# Altium footprint library Header-2x8-M90_2mm_SMD.PcbLib: 1 footprints
Each footprint in its own frame and in the unit in brackets; x right, y up, seen from the top. Pads: shape width x height; smd on the part's side, far side on the other; paste and mask are expansions set on the pad; w line width, h text height; cw(c..) or ccw(c..) is an arc to the next point about the centre after c.
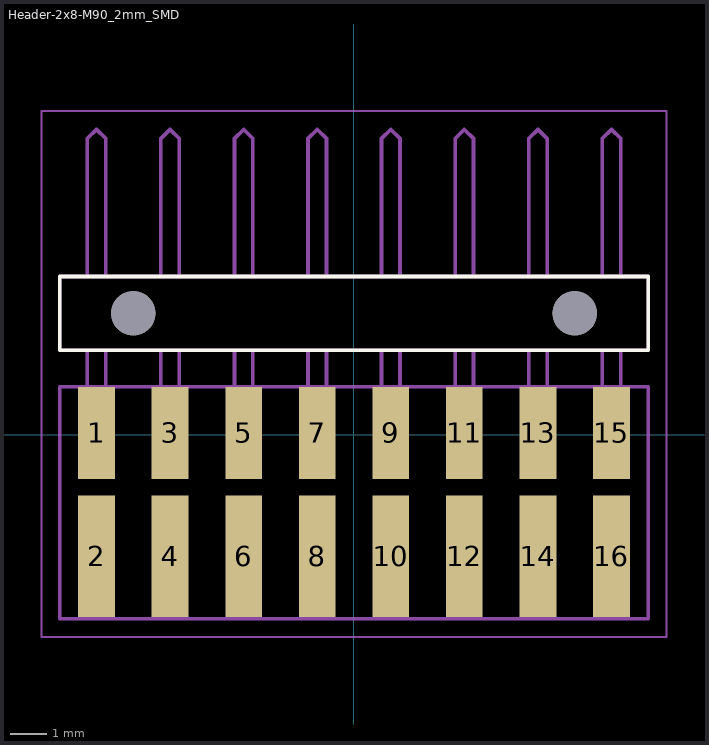
[diagram p0: the footprint, top view; thin cyan lines are the x and y axes]

## Header-2x8-M90_2mm_SMD [mm]
height 4
pads (18):
  rect 1x2.5 smd: 1(-7,0.05) 3(-5,0.05) 5(-3,0.05) 7(-1,0.05) 9(1,0.05) 11(3,0.05) 13(5,0.05) 15(7,0.05)
  rect 1x3.3 smd: 2(-7,-3.3) 4(-5,-3.3) 6(-3,-3.3) 8(-1,-3.3) 10(1,-3.3) 12(3,-3.3) 14(5,-3.3) 16(7,-3.3)
  round 1.2 hole 1.2 unplated: ""(-6,3.3) ""(6,3.3)
Top Overlay:
  lines w0.1: -8,2.3 8,2.3 8,4.3 -8,4.3 -8,2.3
Mechanical 13:
  lines w0.05: -8.5,-5.5 8.5,-5.5 8.5,8.8 -8.5,8.8 -8.5,-5.5
  lines w0.1: -8,1.299 8,1.299 8,-5 -8,-5 -8,1.3 ; -6.75,1.299 -6.75,2.3 -7.25,2.3 -7.25,1.3 -6.75,1.3 ; -5.25,1.299 -5.25,2.3 -4.75,2.3 -4.75,1.299 ; -5.25,1.3 -4.75,1.3 ; -3.25,1.299 -3.25,2.3 -2.75,2.3 -2.75,1.299 ; -3.25,1.3 -2.75,1.3 ; -1.25,1.299 -1.25,2.3 -0.75,2.3 -0.75,1.299 ; -1.25,1.3 -0.75,1.3 ; 0.75,1.299 0.75,2.3 1.25,2.3 1.25,1.299 ; 0.75,1.3 1.25,1.3 ; 2.75,1.299 2.75,2.3 3.25,2.3 3.25,1.299 ; 2.75,1.3 3.25,1.3 ; 4.75,1.299 4.75,2.3 5.25,2.3 5.25,1.299 ; 4.75,1.3 5.25,1.3 ; 6.75,1.299 6.75,2.3 7.25,2.3 7.25,1.299 ; 6.75,1.3 7.25,1.3 ; -7.25,8.05 -7,8.3 ; -7.25,8.05 -7.25,8.05 ; -7.25,8.05 -7.25,4.3 -6.75,4.3 -6.75,8.05 -7,8.3 ; -7,8.3 -7,8.3 ; -5.25,8.05 -5.25,4.3 -4.75,4.3 -4.75,8.05 -5,8.3 ; -5.25,8.05 -5.25,8.05 ; -5.25,8.05 -5,8.3 ; -5,8.3 -5,8.3 ; -3.25,8.05 -3.25,4.3 -2.75,4.3 -2.75,8.05 -3,8.3 ; -3.25,8.05 -3.25,8.05 ; -3.25,8.05 -3,8.3 ; -3,8.3 -3,8.3 ; -1.25,8.05 -1.25,4.3 -0.75,4.3 -0.75,8.05 -1,8.3 ; -1.25,8.05 -1.25,8.05 ; -1.25,8.05 -1,8.3 ; -1,8.3 -1,8.3 ; 0.75,8.05 0.75,4.3 1.25,4.3 1.25,8.05 1,8.3 ; 0.75,8.05 0.75,8.05 ; 0.75,8.05 1,8.3 ; 1,8.3 1,8.3 ; 2.75,8.05 2.75,4.3 3.25,4.3 3.25,8.05 3,8.3 ; 2.75,8.05 2.75,8.05 ; 2.75,8.05 3,8.3 ; 3,8.3 3,8.3 ; 4.75,8.05 4.75,4.3 5.25,4.3 5.25,8.05 5,8.3 ; 4.75,8.05 4.75,8.05 ; 4.75,8.05 5,8.3 ; 5,8.3 5,8.3 ; 6.75,8.05 6.75,4.3 7.25,4.3 7.25,8.05 7,8.3 ; 6.75,8.05 6.75,8.05 ; 6.75,8.05 7,8.3 ; 7,8.3 7,8.3 ; -8,2.3 -8,4.3 8,4.3 8,2.3 -8,2.3
3D body: height 6, standoff 0, extent -8,2.3 8,4.3
3D body: height 6, standoff 0, extent -7.999,-5 8,1.299